# Altium footprint library QFN-11_3x3x05P.PcbLib: 1 footprints
Each footprint in its own frame and in the unit in brackets; x right, y up, seen from the top. Pads: shape width x height; smd on the part's side, far side on the other; paste and mask are expansions set on the pad; w line width, h text height; cw(c..) or ccw(c..) is an arc to the next point about the centre after c.
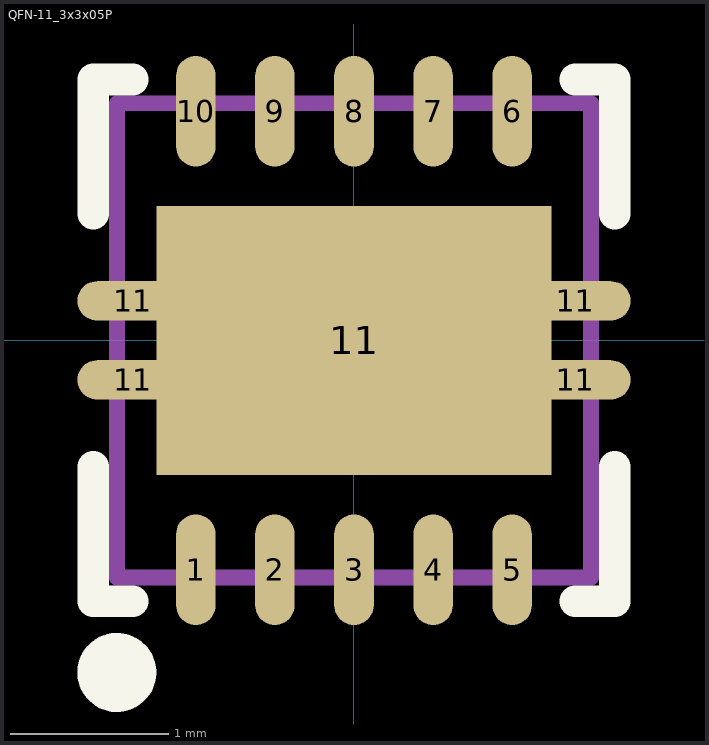
[diagram p0: the footprint, top view; thin cyan lines are the x and y axes]

## QFN-11_3x3x05P [mm]
pads (15):
  oval 0.25x0.7 smd mask+0.051: 1(-1,-1.45) 2(-0.5,-1.45) 3(0,-1.45) 4(0.5,-1.45) 5(1,-1.45) 6(1,1.45) 7(0.5,1.45) 8(0,1.45) 9(-0.5,1.45) 10(-1,1.45)
  oval 0.7x0.25 smd mask+0.051: 11(-1.4,-0.25) 11(-1.4,0.25) 11(1.4,-0.25) 11(1.4,0.25)
  rect 2.5x1.7 smd mask+0.051: 11(0,0)
Top Overlay:
  circle w0.25: c-1.5,-2.1 r0.125
  lines w0.2: -1.65,-0.8 -1.65,-1.65 -1.4,-1.65 ; -1.65,0.8 -1.65,1.65 -1.4,1.65 ; 1.4,-1.65 1.65,-1.65 1.65,-0.8 ; 1.4,1.65 1.65,1.65 1.65,0.8
Mechanical 13:
  lines w0.1: -1.5,-1.5 1.5,-1.5 1.5,1.5 -1.5,1.5 -1.5,-1.5